# EAGLE library part LM2676 (library v-reg)
SWITCHING REGULATOR National Semiconductor
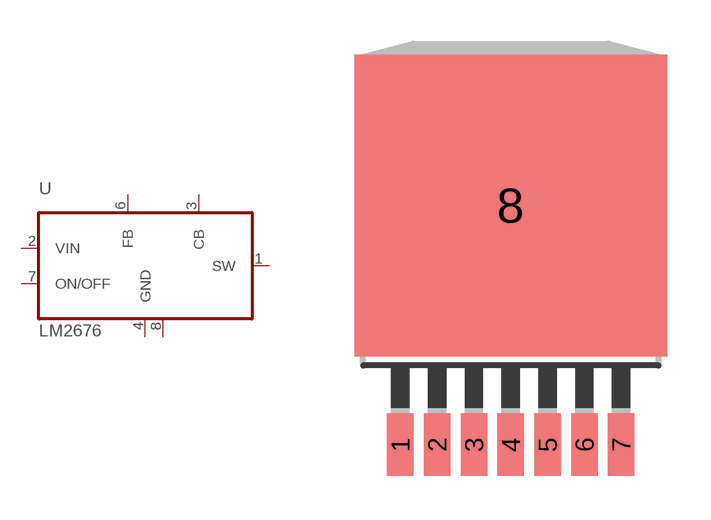
[diagram p9: symbol with the pads of TO263-7; footprint TO263-7]

Designator prefix U

## LM2676  [TO263-7]
1  SW  pas
2  VIN  pas
3  CB  pas
4  GND  pas
6  FB  pas
7  ON/OFF  pas
8  TAB  pas

## Footprint TO263-7 (pad centres in mm)
smd 0.914 x 2.159: 1 -3.81,-5.715; 2 -2.54,-5.715; 3 -1.27,-5.715; 4 0,-5.715; 5 1.27,-5.715; 6 2.54,-5.715; 7 3.81,-5.715
smd 10.8 x 10.41: 8 0,2.54